# Altium footprint library PCB_Lib.PcbLib: 19 footprints (part 1 of 2)
Each footprint in its own frame and in the unit in brackets; x right, y up, seen from the top. Pads: shape width x height; smd on the part's side, far side on the other; paste and mask are expansions set on the pad; w line width, h text height; cw(c..) or ccw(c..) is an arc to the next point about the centre after c.
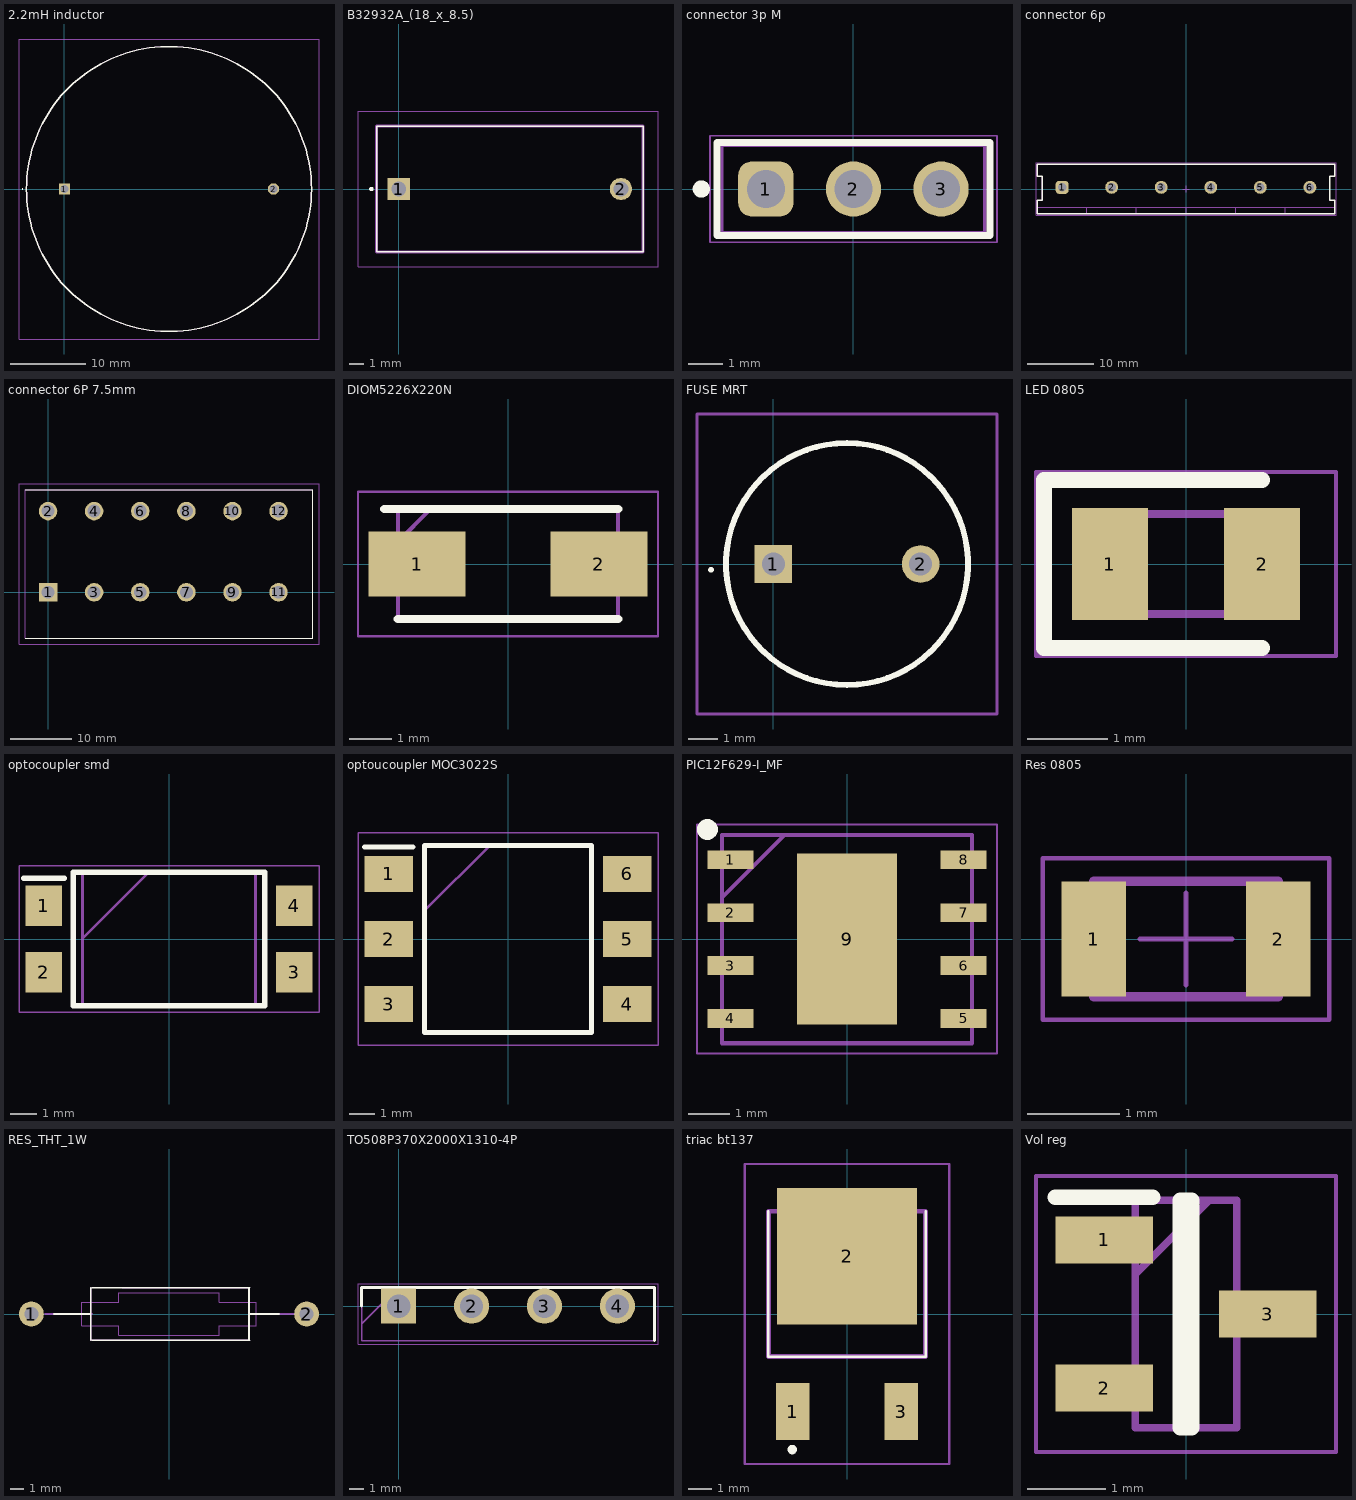
[diagram p0: the footprints below, top view; thin cyan lines are the x and y axes]

## 2.2mH inductor [mm] "1140222KRC"
pads (2):
  rect 1.519x1.519 hole 1.013: 1(0,0)
  round 1.519 hole 1.013: 2(27.94,0)
Top Overlay:
  lines w0.1: -5.65,0 cw(c-5.6,0) -5.55,0 cw(c-5.6,0) -5.65,0
  lines w0.2: -5.08,0 cw(c13.97,0) 33.02,0 cw(c13.97,0) -5.08,0
Top 3D Body:
  lines w0.1: -5.08,0 cw(c13.97,0) 33.02,0 cw(c13.97,0) -5.08,0
Top Courtyard:
  lines w0.1: -6.08,-20.05 -6.08,20.05 34.02,20.05 34.02,-20.05 -6.08,-20.05
3D body "1140-222K-RC.stp": height 26.14, standoff -12.72, extent -5.08,-19.05 33.02,19.05

## B32932A_(18_x_8.5) [mm] "220N X2 safetycap"
pads (2):
  rect 1.5x1.5 hole 1: 1(0,0)
  round 1.5 hole 1: 2(15,0)
Top Overlay:
  circle w0.2: c-1.85,0 r0.05
  lines w0.1: -1.5,-4.25 16.5,-4.25 16.5,4.25 -1.5,4.25 -1.5,-4.25
Top 3D Body:
  lines w0.2: -1.5,-4.25 16.5,-4.25 16.5,4.25 -1.5,4.25 -1.5,-4.25
Top Courtyard:
  lines w0.05: -2.75,-5.25 17.5,-5.25 17.5,5.25 -2.75,5.25 -2.75,-5.25
3D body "B32932A3224K189.stp": height 14.55, standoff -4.95, extent -1.5,-4.25 16.5,4.25

## connector 3p M [mm] "Pin Header, pitch 2.54 mm, THT, Vertical, single row, 3p"
height 8.54
pads (3):
  rrect50% 1.6x1.6 hole 1.1: 1(-2.54,0)
  round 1.6 hole 1.1: 2(0,0) 3(2.54,0)
Top Overlay:
  circle w0.25: c-4.41,0 r0.125
  lines w0.2: -3.96,-1.345 -3.96,1.345 3.96,1.345 3.96,-1.345 -3.96,-1.345
Top Designator:
  text ".Designator" at -7.498,-0.5 h1.5
Top Component Outline:
  lines w0.1: -3.81,-1.27 3.81,-1.27 3.81,1.27 -3.81,1.27 -3.81,-1.27
Top Courtyard:
  lines w0.05: -4.16,-1.545 4.16,-1.545 4.16,1.545 -4.16,1.545 -4.16,-1.545
Top Component Center:
  lines w0.05: -0.5,0 0.5,0 ; 0,-0.5 0,0.5
3D body "61300311121.stp": height 8.57, standoff -2.97, extent -3.81,-1.27 3.81,1.27

## connector 6p [mm] "Horizontal Cable Entry with Pressure Clamp, pitch 7.5mm, 06p"
height 11.5
pads (6):
  rrect50% 1.95x1.95 hole 1.3: 1(-18.75,0.25)
  round 1.95 hole 1.3: 2(-11.25,0.25) 3(-3.75,0.25) 4(3.75,0.25) 5(11.25,0.25) 6(18.75,0.25)
Top Overlay:
  lines w0.2: -22.5,-3.75 -22.5,-1.74 -21.75,-1.74 -21.75,1.9 -22.5,1.9 -22.5,3.75 22.5,3.75 22.5,1.9 21.75,1.9 21.75,-1.74 22.5,-1.74 22.5,-3.75 -22.5,-3.75
Top Designator:
  text ".Designator" at -7.498,-0.5 h1.5
Top Component Outline:
  lines w0.1: -22.5,-2.745 22.5,-2.745 ; -15,-3.75 -15,-2.75 ; -7.5,-3.75 -7.5,-2.75 ; 0,-3.75 0,-2.75 ; 7.5,-3.75 7.5,-2.75 ; 15,-3.75 15,-2.75 ; -22.5,-3.75 22.5,-3.75 22.5,-1.74 21.75,-1.74 21.75,1.9 22.5,1.9 22.5,3.75 -22.5,3.75 -22.5,1.9 -21.75,1.9 -21.75,-1.74 -22.5,-1.74 -22.5,-3.75
Top 3D Body:
  lines w0.1: -22.5,-2.745 22.5,-2.745 ; -15,-3.75 -15,-2.75 ; -7.5,-3.75 -7.5,-2.75 ; 0,-3.75 0,-2.75 ; 7.5,-3.75 7.5,-2.75 ; 15,-3.75 15,-2.75 ; -22.5,-3.75 -22.5,-1.74 -21.75,-1.74 -21.75,1.9 -22.5,1.9 -22.5,3.75 22.5,3.75 22.5,1.9 21.75,1.9 21.75,-1.74 22.5,-1.74 22.5,-3.75 -22.5,-3.75
Top Courtyard:
  lines w0.05: -22.7,-3.95 -22.7,3.95 22.7,3.95 22.7,-3.95 -22.7,-3.95
Top Component Center:
  lines w0.05: -0.5,0 0.5,0 ; 0,-0.5 0,0.5
3D body "691137910006.stp": height 11.52, standoff -3.58, extent -22.5,-3.75 22.5,3.75

## connector 6P 7.5mm [mm] "1719231"
pads (12):
  rect 3x3 hole 2.1: 1(0,0)
  round 3 hole 2.1: 2(0,13.2) 3(7.5,0) 4(7.5,13.2) 5(15,0) 6(15,13.2) 7(22.5,0) 8(22.5,13.2) 9(30,0) 10(30,13.2) 11(37.5,0) 12(37.5,13.2)
Top Overlay:
  lines w0.1: -3.725,-7.475 43.075,-7.475 43.075,16.675 -3.725,16.675
Top 3D Body:
  lines w0.2: -3.725,-7.475 -3.725,16.675 43.075,16.675 43.075,-7.475 -3.725,-7.475
Top Courtyard:
  lines w0.05: -4.725,-8.475 -4.725,17.675 44.075,17.675 44.075,-8.475 -4.725,-8.475
3D body "1719231.stp": height 20.23, standoff -3.97, extent -2.76,-1.772 44.04,22.378

## DIOM5226X220N [mm]
pads (2):
  rect 2.3x1.55 smd: 1(-2.15,0) 2(2.15,0)
Top Overlay:
  lines w0.2: -2.925,1.302 2.605,1.302 ; -2.605,-1.302 2.605,-1.302
Top 3D Body:
  lines w0.1: -2.605,0.528 -1.83,1.302 ; -2.605,-1.302 2.605,-1.302 2.605,1.302 -2.605,1.302 -2.605,-1.302
Top Courtyard:
  lines w0.05: -3.55,-1.71 3.55,-1.71 3.55,1.71 -3.55,1.71 -3.55,-1.71
3D body "SZ1SMA5930BT3G.stp": height 2.2, standoff 0, extent -2.605,-1.302 2.605,1.302

## FUSE MRT [mm] "MRT16AMMO"
pads (2):
  rect 1.3x1.3 hole 0.8: 1(0,0)
  round 1.3 hole 0.8: 2(5.08,0)
Top Overlay:
  lines w0.1: -2.2,-0.2 cw(c-2.15,-0.2) -2.1,-0.2 cw(c-2.15,-0.2) -2.2,-0.2
  lines w0.2: 2.54,-4.175 ccw(c2.54,0) 2.54,4.175 ccw(c2.54,0) 2.54,-4.175
Top 3D Body:
  lines w0.1: 2.54,-4.175 ccw(c2.54,0) 2.54,4.175 ccw(c2.54,0) 2.54,-4.175
Top Courtyard:
  lines w0.1: -2.635,-5.175 -2.635,5.175 7.715,5.175 7.715,-5.175 -2.635,-5.175
3D body "MRT_1.6_AMMO.stp": height 8, standoff -5, extent -1.623,-4.175 6.703,4.175

## LED 0805 [mm] "LEDC2012X80N"
pads (2):
  rect 0.95x1.4 smd: 1(-0.95,0) 2(0.95,0)
Top Overlay:
  lines w0.2: 0.95,-1.05 -1.775,-1.05 -1.775,1.05 0.95,1.05
Top 3D Body:
  lines w0.1: -1,0.208 -0.583,0.625 ; -1,-0.625 -1,0.625 1,0.625 1,-0.625 -1,-0.625
Top Courtyard:
  lines w0.05: -1.875,-1.15 -1.875,1.15 1.875,1.15 1.875,-1.15 -1.875,-1.15
3D body "HSMG-C170.stp": height 0.8, standoff 0, extent -1,-0.625 1,0.625

## optocoupler smd [mm] "SOP254P1005X410-4N"
pads (4):
  rect 1.4x1.55 smd: 1(-4.775,1.27) 2(-4.775,-1.27) 3(4.775,-1.27) 4(4.775,1.27)
Top Overlay:
  lines w0.2: -5.55,2.32 -4,2.32 ; -3.65,-2.55 3.65,-2.55 3.65,2.55 -3.65,2.55 -3.65,-2.55
Top 3D Body:
  lines w0.1: -3.3,0.01 -0.76,2.55 ; -3.3,-2.55 3.3,-2.55 3.3,2.55 -3.3,2.55 -3.3,-2.55
Top Courtyard:
  lines w0.05: -5.725,-2.8 5.725,-2.8 5.725,2.8 -5.725,2.8 -5.725,-2.8
3D body "SFH6206-3T.stp": height 4.1, standoff 0, extent -5.025,-2.55 5.025,2.55

## optoucoupler MOC3022S [mm] "SOT254P1016X460-6N"
pads (6):
  rect 1.9x1.4 smd: 1(-4.65,2.54) 2(-4.65,0) 3(-4.65,-2.54) 4(4.65,-2.54) 5(4.65,0) 6(4.65,2.54)
Top Overlay:
  lines w0.2: -5.6,3.59 -3.7,3.59 ; -3.25,-3.65 3.25,-3.65 3.25,3.65 -3.25,3.65 -3.25,-3.65
Top 3D Body:
  lines w0.1: -3.25,1.11 -0.71,3.65 ; -3.25,-3.65 3.25,-3.65 3.25,3.65 -3.25,3.65 -3.25,-3.65
Top Courtyard:
  lines w0.05: -5.85,-4.15 5.85,-4.15 5.85,4.15 -5.85,4.15 -5.85,-4.15
3D body "MOC3022S.stp": height 4.6, standoff 0, extent -5.08,-3.65 5.08,3.65

## PIC12F629-I_MF [mm] "SON127P600X500X100-9N-D"
pads (9):
  rect 1.1x0.45 smd: 1(-2.8,1.905) 2(-2.8,0.635) 3(-2.8,-0.635) 4(-2.8,-1.905) 5(2.8,-1.905) 6(2.8,-0.635) 7(2.8,0.635) 8(2.8,1.905)
  rect 2.4x4.1 smd: 9(0,0)
Top Overlay:
  circle w0.25: c-3.35,2.63 r0.125
Top 3D Body:
  lines w0.1: -3,1 -1.5,2.5 ; -3,-2.5 -3,2.5 3,2.5 3,-2.5 -3,-2.5
Top Courtyard:
  lines w0.05: -3.6,-2.75 -3.6,2.75 3.6,2.75 3.6,-2.75 -3.6,-2.75
3D body "PIC12F629-I_MF.stp": height 1, standoff 0, extent -3.05,-2.5 3.05,2.5

## Res 0805 [mm] "Thick Film Resistors, SMT, body size 2x1.25mm"
height 0.6
pads (2):
  rect 0.7x1.25 smd: 1(-1,0) 2(1,0)
Top Designator:
  text ".Designator" at -2.499,-0.167 h0.5
Top Component Outline:
  lines w0.1: -1,-0.625 -1,0.625 1,0.625 1,-0.625 -1,-0.625
Top Courtyard:
  lines w0.05: -0.5,0 0.5,0 ; 0,-0.5 0,0.5 ; -1.55,-0.875 -1.55,0.875 1.55,0.875 1.55,-0.875 -1.55,-0.875
3D body "WRIS-KSKE_0805.stp": height 0.6, standoff 0, extent -1,-0.625 1,0.625

## RES_THT_1W [mm]
height 2.6
pads (2):
  round 1.8 hole 1: 1(-10,0) 2(10,0)
Top Overlay:
  lines w0.127: -8.382,0 -5.715,0 ; -5.686,-1.905 -5.686,0 -5.686,1.905 ; -5.588,-1.905 5.842,-1.905 ; -5.588,1.905 5.842,1.905 ; 5.813,-1.905 5.813,0 5.813,1.905 ; 5.842,0 8.001,0
Top 3D Body:
  lines w0.127: -9.017,0 -5.588,0 ; -5.686,-1.905 -5.686,0 -5.686,1.905 ; -5.588,-1.905 5.842,-1.905 ; -3.4,1.905 5.842,1.905 ; 5.813,-1.905 5.813,-0.029 ; 5.813,0 5.813,1.905 ; 5.842,-0.029 5.871,0 9.144,0
Top Courtyard:
  lines w0.05: -6.35,-0.85 -3.65,-0.85 -3.65,-1.55 3.65,-1.55 3.65,-0.85 6.35,-0.85 6.35,0.85 3.65,0.85 3.65,1.55 -3.65,1.55 -3.65,0.85 -6.35,0.85 -6.35,-0.85
3D body "step_temp.STEP": height 2.6, standoff -25.53, extent -5.775,-1.3 5.775,1.3

## TO508P370X2000X1310-4P [mm]
pads (4):
  rect 2.445x2.445 hole 1.63: 1(0,0)
  round 2.445 hole 1.63: 2(5.08,0) 3(10.16,0) 4(15.24,0)
Top Overlay:
  lines w0.2: -2.58,0 -2.58,1.3 17.82,1.3 17.82,-2.4
Top 3D Body:
  lines w0.1: -2.58,-1.24 -0.04,1.3 ; -2.58,-2.4 17.82,-2.4 17.82,1.3 -2.58,1.3 -2.58,-2.4
Top Courtyard:
  lines w0.05: -2.83,-2.65 18.07,-2.65 18.07,1.55 -2.83,1.55 -2.83,-2.65
3D body "GBUA10M-BP.stp": height 13.1, standoff -21, extent -2.38,-2.4 17.62,1.3

## triac bt137 [mm] "BT137S600118"
pads (3):
  rect 1.4x2.4 smd: 1(-2.285,-4.1) 3(2.285,-4.1)
  rect 5.9x5.75 smd: 2(0,2.425)
Top Overlay:
  lines w0.1: -3.3,4.312 -3.3,-1.688 -3.3,-1.788 3.3,-1.788 3.3,4.312
  lines w0.2: -2.4,-5.694 cw(c-2.3,-5.694) -2.2,-5.694 cw(c-2.3,-5.694) -2.4,-5.694
Top 3D Body:
  lines w0.2: -3.3,-1.788 -3.3,4.312 3.3,4.312 3.3,-1.788 -3.3,-1.788
Top Courtyard:
  lines w0.1: -4.3,-6.3 -4.3,6.3 4.3,6.3 4.3,-6.3 -4.3,-6.3
3D body "BT137S-600,118.stp": height 2.38, standoff 0, extent -3.3,-4.688 3.3,5.312

## Vol reg [mm] "SOT95P237X112-3N"
pads (3):
  rect 1.25x0.6 smd: 1(-1.05,0.95) 2(-1.05,-0.95) 3(1.05,0)
Top Overlay:
  lines w0.2: -1.675,1.5 -0.425,1.5 ; -0.075,-1.46 0.075,-1.46 0.075,1.46 -0.075,1.46 -0.075,-1.46
Top 3D Body:
  lines w0.1: -0.65,0.51 0.3,1.46 ; -0.65,-1.46 0.65,-1.46 0.65,1.46 -0.65,1.46 -0.65,-1.46
Top Courtyard:
  lines w0.05: -1.925,-1.77 1.925,-1.77 1.925,1.77 -1.925,1.77 -1.925,-1.77
3D body "LM3480IM3X-5.0_NOPB.stp": height 1, standoff 0, extent -1.27,-1.46 1.27,1.46